# EAGLE library part INA126E (library burr-brown)
Micropower Instrumentation Amplifier Single and Dual Versions
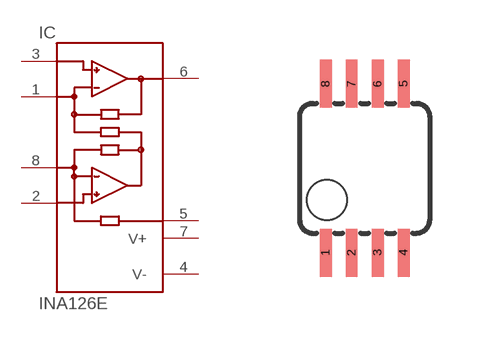
[diagram p269: symbol with the pads of MSOP-08; footprint MSOP-08]

Designator prefix IC

## INA126E  [MSOP-08]
1  RG  pas
2  -IN  in
3  +IN  in
4  V-  pwr
5  REF  pas
6  OUT  out
7  V+  pwr
8  RG  pas

## Footprint MSOP-08 (pad centres in mm)
smd 0.3 x 1.2: 1 -0.976,-2.113; 2 -0.326,-2.113; 3 0.324,-2.113; 4 0.974,-2.113; 5 0.974,2.112; 6 0.324,2.112; 7 -0.326,2.112; 8 -0.976,2.112